# EAGLE library part LMH6626 (library RF_TransimpedanceAmp)
TI dual op-amp LMH6626
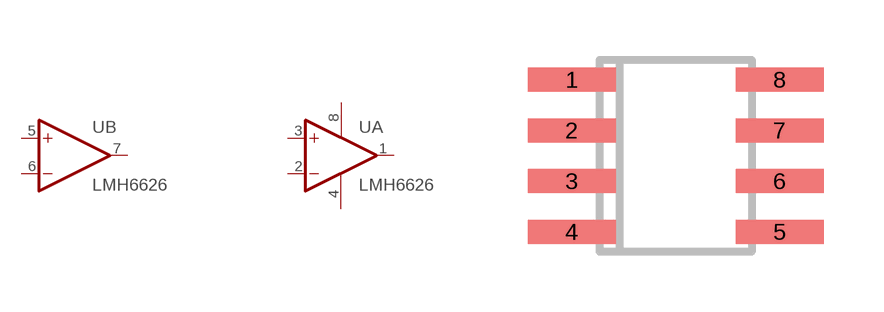
[diagram p0: symbol with the pads of SO08; footprint SO08]

Designator prefix U; gates A=OPAMP B=OPAMP G$3=PWR

## LMH6626  [SO08]
1  A:OUT  out
2  A:-IN  in
3  A:+IN  in
4  G$3:V-  pwr
5  B:+IN  in
6  B:-IN  in
7  B:OUT  out
8  G$3:V+  pwr

## Footprint SO08 (pad centres in mm)
SO08 Package. body 3.9 mm/JEDEC MS-012AA
smd 2.2 x 0.6: 1 -2.6,1.27; 2 -2.6,0; 3 -2.6,-1.27; 4 -2.6,-2.54; 5 2.6,-2.54; 6 2.6,-1.27; 7 2.6,0; 8 2.6,1.27